# Altium integrated library LIS2MDLTR1.IntLib: 1 symbol
Pins are listed as number, name and electrical type; pins without a type are passive.

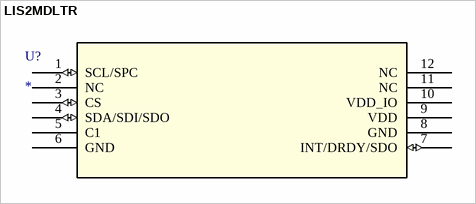
[diagram p0: symbol LIS2MDLTR]

## LIS2MDLTR
designator U?
No Description Available; Mfr_Name: STMicroelectronics; RefDes: RefDes; Type: Type
footprint LIS (Footprint not found)
pins: 1 SCL/SPC (io), 2 NC, 3 CS (io), 4 SDA/SDI/SDO (io), 5 C1, 6 GND (power), 7 INT/DRDY/SDO (io), 8 GND (power), 9 VDD (power), 10 VDD_IO (power), 11 NC, 12 NC